# EAGLE library part S07P (library con-amp-mt)
AMP MT CONNECTOR
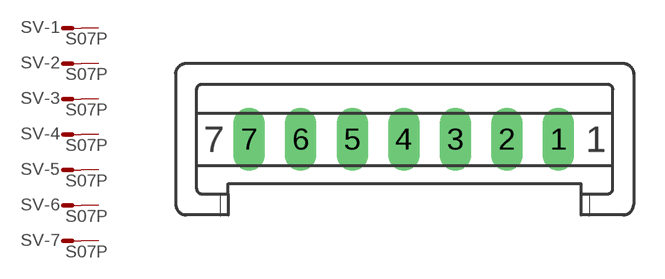
[diagram p22: symbol with the pads of S07P; footprint S07P]

Designator prefix SV; gates -1=M -2=M -3=M -4=M -5=M -6=M -7=M

## S07P (OC_FARNELL: unknown; OC_NEWARK: unknown)  [S07P]
1  -1:S  pas
2  -2:S  pas
3  -3:S  pas
4  -4:S  pas
5  -5:S  pas
6  -6:S  pas
7  -7:S  pas

## Footprint S07P (pad centres in mm)
AMP MT CONNECTOR
drill 1.016 long: 1 7.5,0; 2 5,0; 3 2.5,0; 4 0,0; 5 -2.5,0; 6 -5,0; 7 -7.5,0